# EAGLE library part 6120XX22921_61204022921 (library 61201021621_Eagle_WR-BHD_rev19b)
2.54 mm Male Angled Box Header with long lever KIND PROPERTIES: Pitch 2.54 mm Gender:Male MATERIAL PROPERTIES: Insulator Material:PBT Insulator Flammability Rating UL94 V-0 Insulator Color:Black Contact Material :Copper Alloy Contact Plating :Gold Contact Type: Stamped GENERAL INFORMATION: Operating Temperature:-40 °C up to +125 °C Compliance:RoHS Working Voltage: 250 V (AC) Withstanding Voltage:500 V (AC) Contact Resistance: 20 mΩ Insulation Resistance:1000 MΩ CERTIFICATION UL Approval:E323964 PACKAGING PROPERTIES Packaging :Tray <https://katalog.we-online.com/media/images/v2/o58851v209%20Family_long_lever_WR-BHD_6120xx22x21.jpg> Details see: https://katalog.we-online.com/en/em/BHD_2_54_MALE_ANGLED_BOX_HEADER_WITH_LONG_LEVER_6120XX22921 Updated by Yingchun,Shan 2019-10-31 2019 (C) Würth Elektronik
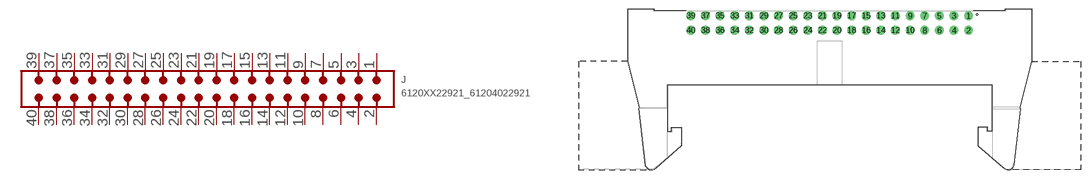
[diagram p104: symbol with the pads of 61204022921; footprint 61204022921]

Designator prefix J

## 6120XX22921_61204022921 (CONTACT-RESISTANCE: 20mOhm; DATASHEET-URL: https://katalog.we-online.com/em/datasheet/61204022921.pdf; GENDER: Male; IR: 3A; L: 70.1mm; MATES: WR-BHD 2.54mm Female IDC Connector with Strain Relief; MOUNT: THT; PACKAGING: Tray; PART-NUMBER: 61204022921; PINS: 40; PITCH: 2.54mm; TOL-R: max.; TYPE: Angled; WORKING-VOLTAGE: 250V(AC))  [61204022921]
1  1  pas
2  2  pas
3  3  pas
4  4  pas
5  5  pas
6  6  pas
7  7  pas
8  8  pas
9  9  pas
10  10  pas
11  11  pas
12  12  pas
13  13  pas
14  14  pas
15  15  pas
16  16  pas
17  17  pas
18  18  pas
19  19  pas
20  20  pas
21  21  pas
22  22  pas
23  23  pas
24  24  pas
25  25  pas
26  26  pas
27  27  pas
28  28  pas
29  29  pas
30  30  pas
31  31  pas
32  32  pas
33  33  pas
34  34  pas
35  35  pas
36  36  pas
37  37  pas
38  38  pas
39  39  pas
40  40  pas

## Footprint 61204022921 (pad centres in mm)
WR-BHD 2.54 mm Male Angled Box Header with long lever, 40 Pins
drill 1.02: 1 24.13,7.36; 2 24.13,4.82; 3 21.59,7.36; 4 21.59,4.82; 5 19.05,7.36; 6 19.05,4.82; 7 16.51,7.36; 8 16.51,4.82; 9 13.97,7.36; 10 13.97,4.82; 11 11.43,7.36; 12 11.43,4.82; 13 8.89,7.36; 14 8.89,4.82; 15 6.35,7.36; 16 6.35,4.82; 17 3.81,7.36; 18 3.81,4.82; 19 1.27,7.36; 20 1.27,4.82; 21 -1.27,7.36; 22 -1.27,4.82; 23 -3.81,7.36; 24 -3.81,4.82; 25 -6.35,7.36; 26 -6.35,4.82; 27 -8.89,7.36; 28 -8.89,4.82; 29 -11.43,7.36; 30 -11.43,4.82; 31 -13.97,7.36; 32 -13.97,4.82; 33 -16.51,7.36; 34 -16.51,4.82; 35 -19.05,7.36; 36 -19.05,4.82; 37 -21.59,7.36; 38 -21.59,4.82; 39 -24.13,7.36; 40 -24.13,4.82